# Altium footprint library QFP50P2200X2200X145-144L35N.PcbLib: 1 footprints
Each footprint in its own frame and in the unit in brackets; x right, y up, seen from the top. Pads: shape width x height; smd on the part's side, far side on the other; paste and mask are expansions set on the pad; w line width, h text height; cw(c..) or ccw(c..) is an arc to the next point about the centre after c.
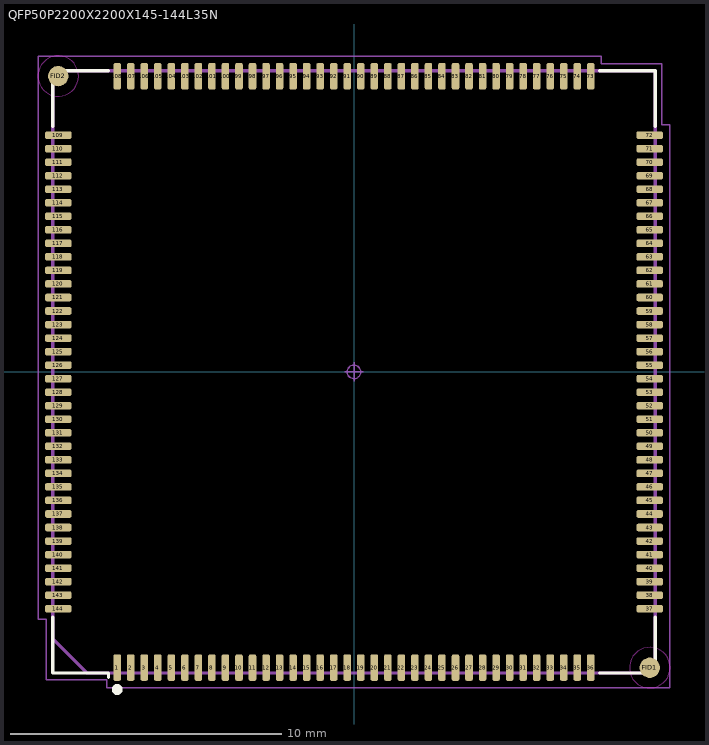
[diagram p0: the footprint, top view; thin cyan lines are the x and y axes]

## QFP50P2200X2200X145-144L35N [mm] "Quad Flat Pack (QFP), 0.50 mm pitch; square, 36 pin X 36 pin, 22.05 mm L X 22.05 mm W X 1.45 mm H body"
height 1.45
pads (146):
  rrect50% 0.28x0.98 smd: 1(-8.75,-10.925) 2(-8.25,-10.925) 3(-7.75,-10.925) 4(-7.25,-10.925) 5(-6.75,-10.925) 6(-6.25,-10.925) 7(-5.75,-10.925) 8(-5.25,-10.925) 9(-4.75,-10.925) 10(-4.25,-10.925) 11(-3.75,-10.925) 12(-3.25,-10.925) 13(-2.75,-10.925) 14(-2.25,-10.925) 15(-1.75,-10.925) 16(-1.25,-10.925) 17(-0.75,-10.925) 18(-0.25,-10.925) 19(0.25,-10.925) 20(0.75,-10.925) 21(1.25,-10.925) 22(1.75,-10.925) 23(2.25,-10.925) 24(2.75,-10.925) 25(3.25,-10.925) 26(3.75,-10.925) 27(4.25,-10.925) 28(4.75,-10.925) 29(5.25,-10.925) 30(5.75,-10.925) 31(6.25,-10.925) 32(6.75,-10.925) 33(7.25,-10.925) 34(7.75,-10.925) 35(8.25,-10.925) 36(8.75,-10.925) 73(8.75,10.925) 74(8.25,10.925) 75(7.75,10.925) 76(7.25,10.925) 77(6.75,10.925) 78(6.25,10.925) 79(5.75,10.925) 80(5.25,10.925) 81(4.75,10.925) 82(4.25,10.925) 83(3.75,10.925) 84(3.25,10.925) 85(2.75,10.925) 86(2.25,10.925) 87(1.75,10.925) 88(1.25,10.925) 89(0.75,10.925) 90(0.25,10.925) 91(-0.25,10.925) 92(-0.75,10.925) 93(-1.25,10.925) 94(-1.75,10.925) 95(-2.25,10.925) 96(-2.75,10.925) 97(-3.25,10.925) 98(-3.75,10.925) 99(-4.25,10.925) 100(-4.75,10.925) 101(-5.25,10.925) 102(-5.75,10.925) 103(-6.25,10.925) 104(-6.75,10.925) 105(-7.25,10.925) 106(-7.75,10.925) 107(-8.25,10.925) 108(-8.75,10.925)
  rrect50% 0.98x0.28 smd: 37(10.925,-8.75) 38(10.925,-8.25) 39(10.925,-7.75) 40(10.925,-7.25) 41(10.925,-6.75) 42(10.925,-6.25) 43(10.925,-5.75) 44(10.925,-5.25) 45(10.925,-4.75) 46(10.925,-4.25) 47(10.925,-3.75) 48(10.925,-3.25) 49(10.925,-2.75) 50(10.925,-2.25) 51(10.925,-1.75) 52(10.925,-1.25) 53(10.925,-0.75) 54(10.925,-0.25) 55(10.925,0.25) 56(10.925,0.75) 57(10.925,1.25) 58(10.925,1.75) 59(10.925,2.25) 60(10.925,2.75) 61(10.925,3.25) 62(10.925,3.75) 63(10.925,4.25) 64(10.925,4.75) 65(10.925,5.25) 66(10.925,5.75) 67(10.925,6.25) 68(10.925,6.75) 69(10.925,7.25) 70(10.925,7.75) 71(10.925,8.25) 72(10.925,8.75) 109(-10.925,8.75) 110(-10.925,8.25) 111(-10.925,7.75) 112(-10.925,7.25) 113(-10.925,6.75) 114(-10.925,6.25) 115(-10.925,5.75) 116(-10.925,5.25) 117(-10.925,4.75) 118(-10.925,4.25) 119(-10.925,3.75) 120(-10.925,3.25) 121(-10.925,2.75) 122(-10.925,2.25) 123(-10.925,1.75) 124(-10.925,1.25) 125(-10.925,0.75) 126(-10.925,0.25) 127(-10.925,-0.25) 128(-10.925,-0.75) 129(-10.925,-1.25) 130(-10.925,-1.75) 131(-10.925,-2.25) 132(-10.925,-2.75) 133(-10.925,-3.25) 134(-10.925,-3.75) 135(-10.925,-4.25) 136(-10.925,-4.75) 137(-10.925,-5.25) 138(-10.925,-5.75) 139(-10.925,-6.25) 140(-10.925,-6.75) 141(-10.925,-7.25) 142(-10.925,-7.75) 143(-10.925,-8.25) 144(-10.925,-8.75)
  round 0.75 smd paste-0.75 mask+0.375: FID1(10.93,-10.93) FID2(-10.93,10.93)
Top Layer keep-out:
  circle w0.025: c10.93,-10.93 r0.75
  circle w0.025: c-10.93,10.93 r0.75
Top Overlay:
  circle w0.2: c-8.75,-11.735 r0.1
  lines w0.12: -11.13,-9.07 -11.13,-11.13 -9.07,-11.13 -9.07,-11.295 ; -11.13,9.07 -11.13,11.13 -9.07,11.13 ; 9.07,-11.13 11.13,-11.13 11.13,-9.07 ; 9.07,11.13 11.13,11.13 11.13,9.07
Fab - Detail1, HDI1:
  lines w0.12: -11.13,-9.86 -9.86,-11.13 11.13,-11.13 11.13,11.13 -11.13,11.13 -11.13,-9.86
Courtyards/Models - Top:
  circle w0.05: c0,0 r0.25
  lines w0.05: -0.35,0 0.35,0 ; 0,-0.35 0,0.35 ; -11.67,-9.14 -11.67,11.67 9.14,11.67 9.14,11.38 11.38,11.38 11.38,9.14 11.67,9.14 11.67,-11.67 -9.14,-11.67 -9.14,-11.38 -11.38,-11.38 -11.38,-9.14 -11.67,-9.14
3D body: height 1.8, standoff -0.09, extent -11.101,-11.1 11.101,11.102